# Altium schematic symbol library ASDX030G2.SchLib: 1 symbol
Pins are listed as number, name and electrical type; pins without a type are passive.

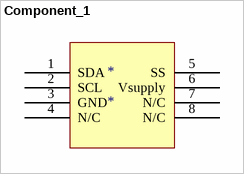
[diagram p0: symbol Component_1]

## Component_1
designator *
footprint PCBComponent_1
pins: 1 SDA, 2 SCL, 3 GND, 4 N/C, 5 SS, 6 Vsupply, 7 N/C, 8 N/C